# Altium schematic symbol library SCH - MCU - ATSAM - MICROCHIP SAMD51N20A-AU TQFP100.SchLib: 1 symbol
Pins are listed as number, name and electrical type; pins without a type are passive.

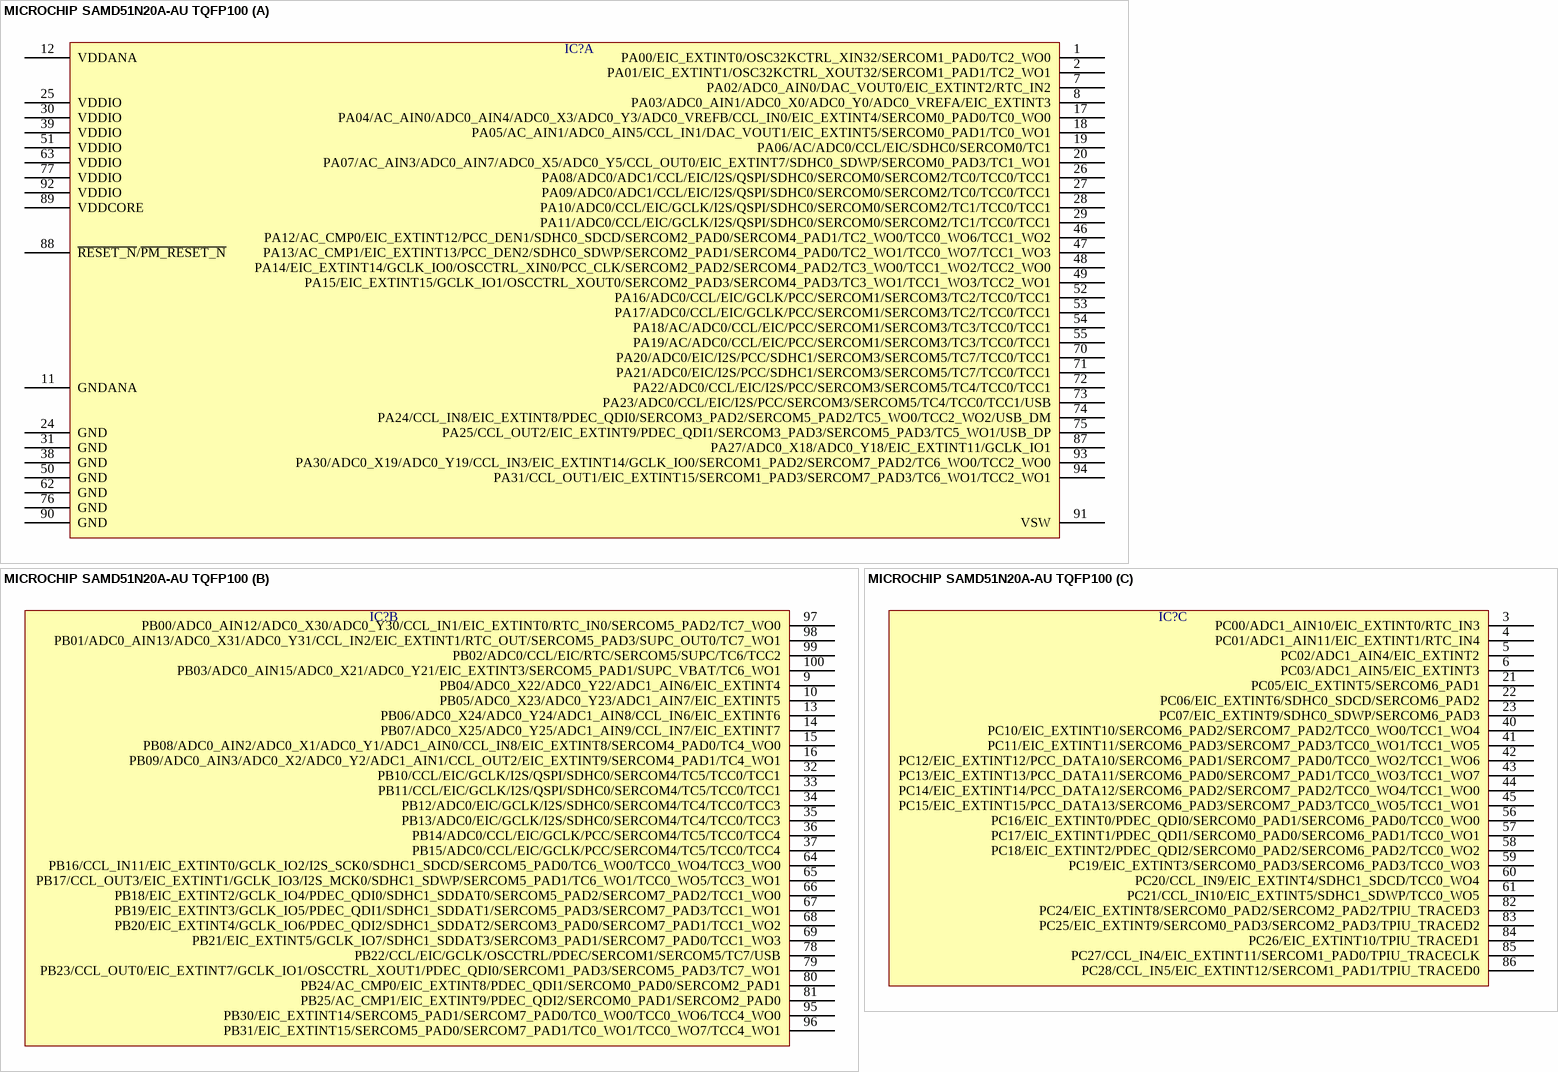
[diagram p0: symbol MICROCHIP SAMD51N20A-AU TQFP100]

## MICROCHIP SAMD51N20A-AU TQFP100
designator IC?  (value not drawn)
part A pins: 1 PA00/EIC_EXTINT0/OSC32KCTRL_XIN32/SERCOM1_PAD0/TC2_WO0, 2 PA01/EIC_EXTINT1/OSC32KCTRL_XOUT32/SERCOM1_PAD1/TC2_WO1, 7 PA02/ADC0_AIN0/DAC_VOUT0/EIC_EXTINT2/RTC_IN2, 8 PA03/ADC0_AIN1/ADC0_X0/ADC0_Y0/ADC0_VREFA/EIC_EXTINT3, 11 GNDANA, 12 VDDANA, 17 PA04/AC_AIN0/ADC0_AIN4/ADC0_X3/ADC0_Y3/ADC0_VREFB/CCL_IN0/EIC_EXTINT4/SERCOM0_PAD0/TC0_WO0, 18 PA05/AC_AIN1/ADC0_AIN5/CCL_IN1/DAC_VOUT1/EIC_EXTINT5/SERCOM0_PAD1/TC0_WO1, 19 PA06/AC/ADC0/CCL/EIC/SDHC0/SERCOM0/TC1, 20 PA07/AC_AIN3/ADC0_AIN7/ADC0_X5/ADC0_Y5/CCL_OUT0/EIC_EXTINT7/SDHC0_SDWP/SERCOM0_PAD3/TC1_WO1, 24 GND, 25 VDDIO, 26 PA08/ADC0/ADC1/CCL/EIC/I2S/QSPI/SDHC0/SERCOM0/SERCOM2/TC0/TCC0/TCC1, 27 PA09/ADC0/ADC1/CCL/EIC/I2S/QSPI/SDHC0/SERCOM0/SERCOM2/TC0/TCC0/TCC1, 28 PA10/ADC0/CCL/EIC/GCLK/I2S/QSPI/SDHC0/SERCOM0/SERCOM2/TC1/TCC0/TCC1, 29 PA11/ADC0/CCL/EIC/GCLK/I2S/QSPI/SDHC0/SERCOM0/SERCOM2/TC1/TCC0/TCC1, 30 VDDIO, 31 GND, 38 GND, 39 VDDIO, 46 PA12/AC_CMP0/EIC_EXTINT12/PCC_DEN1/SDHC0_SDCD/SERCOM2_PAD0/SERCOM4_PAD1/TC2_WO0/TCC0_WO6/TCC1_WO2, 47 PA13/AC_CMP1/EIC_EXTINT13/PCC_DEN2/SDHC0_SDWP/SERCOM2_PAD1/SERCOM4_PAD0/TC2_WO1/TCC0_WO7/TCC1_WO3, 48 PA14/EIC_EXTINT14/GCLK_IO0/OSCCTRL_XIN0/PCC_CLK/SERCOM2_PAD2/SERCOM4_PAD2/TC3_WO0/TCC1_WO2/TCC2_WO0, 49 PA15/EIC_EXTINT15/GCLK_IO1/OSCCTRL_XOUT0/SERCOM2_PAD3/SERCOM4_PAD3/TC3_WO1/TCC1_WO3/TCC2_WO1, 50 GND, 51 VDDIO, 52 PA16/ADC0/CCL/EIC/GCLK/PCC/SERCOM1/SERCOM3/TC2/TCC0/TCC1, 53 PA17/ADC0/CCL/EIC/GCLK/PCC/SERCOM1/SERCOM3/TC2/TCC0/TCC1, 54 PA18/AC/ADC0/CCL/EIC/PCC/SERCOM1/SERCOM3/TC3/TCC0/TCC1, 55 PA19/AC/ADC0/CCL/EIC/PCC/SERCOM1/SERCOM3/TC3/TCC0/TCC1, 62 GND, 63 VDDIO, 70 PA20/ADC0/EIC/I2S/PCC/SDHC1/SERCOM3/SERCOM5/TC7/TCC0/TCC1, 71 PA21/ADC0/EIC/I2S/PCC/SDHC1/SERCOM3/SERCOM5/TC7/TCC0/TCC1, 72 PA22/ADC0/CCL/EIC/I2S/PCC/SERCOM3/SERCOM5/TC4/TCC0/TCC1, 73 PA23/ADC0/CCL/EIC/I2S/PCC/SERCOM3/SERCOM5/TC4/TCC0/TCC1/USB, 74 PA24/CCL_IN8/EIC_EXTINT8/PDEC_QDI0/SERCOM3_PAD2/SERCOM5_PAD2/TC5_WO0/TCC2_WO2/USB_DM, 75 PA25/CCL_OUT2/EIC_EXTINT9/PDEC_QDI1/SERCOM3_PAD3/SERCOM5_PAD3/TC5_WO1/USB_DP, 76 GND, 77 VDDIO, 87 PA27/ADC0_X18/ADC0_Y18/EIC_EXTINT11/GCLK_IO1, 88 ~{RESET_N}/~{PM_RESET_N}, 89 VDDCORE, 90 GND, 91 VSW, 92 VDDIO, 93 PA30/ADC0_X19/ADC0_Y19/CCL_IN3/EIC_EXTINT14/GCLK_IO0/SERCOM1_PAD2/SERCOM7_PAD2/TC6_WO0/TCC2_WO0, 94 PA31/CCL_OUT1/EIC_EXTINT15/SERCOM1_PAD3/SERCOM7_PAD3/TC6_WO1/TCC2_WO1
part B pins: 9 PB04/ADC0_X22/ADC0_Y22/ADC1_AIN6/EIC_EXTINT4, 10 PB05/ADC0_X23/ADC0_Y23/ADC1_AIN7/EIC_EXTINT5, 13 PB06/ADC0_X24/ADC0_Y24/ADC1_AIN8/CCL_IN6/EIC_EXTINT6, 14 PB07/ADC0_X25/ADC0_Y25/ADC1_AIN9/CCL_IN7/EIC_EXTINT7, 15 PB08/ADC0_AIN2/ADC0_X1/ADC0_Y1/ADC1_AIN0/CCL_IN8/EIC_EXTINT8/SERCOM4_PAD0/TC4_WO0, 16 PB09/ADC0_AIN3/ADC0_X2/ADC0_Y2/ADC1_AIN1/CCL_OUT2/EIC_EXTINT9/SERCOM4_PAD1/TC4_WO1, 32 PB10/CCL/EIC/GCLK/I2S/QSPI/SDHC0/SERCOM4/TC5/TCC0/TCC1, 33 PB11/CCL/EIC/GCLK/I2S/QSPI/SDHC0/SERCOM4/TC5/TCC0/TCC1, 34 PB12/ADC0/EIC/GCLK/I2S/SDHC0/SERCOM4/TC4/TCC0/TCC3, 35 PB13/ADC0/EIC/GCLK/I2S/SDHC0/SERCOM4/TC4/TCC0/TCC3, 36 PB14/ADC0/CCL/EIC/GCLK/PCC/SERCOM4/TC5/TCC0/TCC4, 37 PB15/ADC0/CCL/EIC/GCLK/PCC/SERCOM4/TC5/TCC0/TCC4, 64 PB16/CCL_IN11/EIC_EXTINT0/GCLK_IO2/I2S_SCK0/SDHC1_SDCD/SERCOM5_PAD0/TC6_WO0/TCC0_WO4/TCC3_WO0, 65 PB17/CCL_OUT3/EIC_EXTINT1/GCLK_IO3/I2S_MCK0/SDHC1_SDWP/SERCOM5_PAD1/TC6_WO1/TCC0_WO5/TCC3_WO1, 66 PB18/EIC_EXTINT2/GCLK_IO4/PDEC_QDI0/SDHC1_SDDAT0/SERCOM5_PAD2/SERCOM7_PAD2/TCC1_WO0, 67 PB19/EIC_EXTINT3/GCLK_IO5/PDEC_QDI1/SDHC1_SDDAT1/SERCOM5_PAD3/SERCOM7_PAD3/TCC1_WO1, 68 PB20/EIC_EXTINT4/GCLK_IO6/PDEC_QDI2/SDHC1_SDDAT2/SERCOM3_PAD0/SERCOM7_PAD1/TCC1_WO2, 69 PB21/EIC_EXTINT5/GCLK_IO7/SDHC1_SDDAT3/SERCOM3_PAD1/SERCOM7_PAD0/TCC1_WO3, 78 PB22/CCL/EIC/GCLK/OSCCTRL/PDEC/SERCOM1/SERCOM5/TC7/USB, 79 PB23/CCL_OUT0/EIC_EXTINT7/GCLK_IO1/OSCCTRL_XOUT1/PDEC_QDI0/SERCOM1_PAD3/SERCOM5_PAD3/TC7_WO1, 80 PB24/AC_CMP0/EIC_EXTINT8/PDEC_QDI1/SERCOM0_PAD0/SERCOM2_PAD1, 81 PB25/AC_CMP1/EIC_EXTINT9/PDEC_QDI2/SERCOM0_PAD1/SERCOM2_PAD0, 95 PB30/EIC_EXTINT14/SERCOM5_PAD1/SERCOM7_PAD0/TC0_WO0/TCC0_WO6/TCC4_WO0, 96 PB31/EIC_EXTINT15/SERCOM5_PAD0/SERCOM7_PAD1/TC0_WO1/TCC0_WO7/TCC4_WO1, 97 PB00/ADC0_AIN12/ADC0_X30/ADC0_Y30/CCL_IN1/EIC_EXTINT0/RTC_IN0/SERCOM5_PAD2/TC7_WO0, 98 PB01/ADC0_AIN13/ADC0_X31/ADC0_Y31/CCL_IN2/EIC_EXTINT1/RTC_OUT/SERCOM5_PAD3/SUPC_OUT0/TC7_WO1, 99 PB02/ADC0/CCL/EIC/RTC/SERCOM5/SUPC/TC6/TCC2, 100 PB03/ADC0_AIN15/ADC0_X21/ADC0_Y21/EIC_EXTINT3/SERCOM5_PAD1/SUPC_VBAT/TC6_WO1
part C pins: 3 PC00/ADC1_AIN10/EIC_EXTINT0/RTC_IN3, 4 PC01/ADC1_AIN11/EIC_EXTINT1/RTC_IN4, 5 PC02/ADC1_AIN4/EIC_EXTINT2, 6 PC03/ADC1_AIN5/EIC_EXTINT3, 21 PC05/EIC_EXTINT5/SERCOM6_PAD1, 22 PC06/EIC_EXTINT6/SDHC0_SDCD/SERCOM6_PAD2, 23 PC07/EIC_EXTINT9/SDHC0_SDWP/SERCOM6_PAD3, 40 PC10/EIC_EXTINT10/SERCOM6_PAD2/SERCOM7_PAD2/TCC0_WO0/TCC1_WO4, 41 PC11/EIC_EXTINT11/SERCOM6_PAD3/SERCOM7_PAD3/TCC0_WO1/TCC1_WO5, 42 PC12/EIC_EXTINT12/PCC_DATA10/SERCOM6_PAD1/SERCOM7_PAD0/TCC0_WO2/TCC1_WO6, 43 PC13/EIC_EXTINT13/PCC_DATA11/SERCOM6_PAD0/SERCOM7_PAD1/TCC0_WO3/TCC1_WO7, 44 PC14/EIC_EXTINT14/PCC_DATA12/SERCOM6_PAD2/SERCOM7_PAD2/TCC0_WO4/TCC1_WO0, 45 PC15/EIC_EXTINT15/PCC_DATA13/SERCOM6_PAD3/SERCOM7_PAD3/TCC0_WO5/TCC1_WO1, 56 PC16/EIC_EXTINT0/PDEC_QDI0/SERCOM0_PAD1/SERCOM6_PAD0/TCC0_WO0, 57 PC17/EIC_EXTINT1/PDEC_QDI1/SERCOM0_PAD0/SERCOM6_PAD1/TCC0_WO1, 58 PC18/EIC_EXTINT2/PDEC_QDI2/SERCOM0_PAD2/SERCOM6_PAD2/TCC0_WO2, 59 PC19/EIC_EXTINT3/SERCOM0_PAD3/SERCOM6_PAD3/TCC0_WO3, 60 PC20/CCL_IN9/EIC_EXTINT4/SDHC1_SDCD/TCC0_WO4, 61 PC21/CCL_IN10/EIC_EXTINT5/SDHC1_SDWP/TCC0_WO5, 82 PC24/EIC_EXTINT8/SERCOM0_PAD2/SERCOM2_PAD2/TPIU_TRACED3, 83 PC25/EIC_EXTINT9/SERCOM0_PAD3/SERCOM2_PAD3/TPIU_TRACED2, 84 PC26/EIC_EXTINT10/TPIU_TRACED1, 85 PC27/CCL_IN4/EIC_EXTINT11/SERCOM1_PAD0/TPIU_TRACECLK, 86 PC28/CCL_IN5/EIC_EXTINT12/SERCOM1_PAD1/TPIU_TRACED0